# EAGLE library part P25QXH (library alvie)
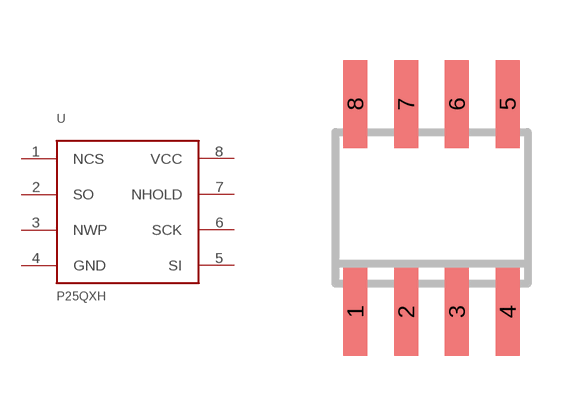
[diagram p79: symbol with the pads of SOIC8; footprint SOIC8]

Designator prefix -

## P25QXH  [SOIC8]
1  NCS  in
2  SO
3  NWP
4  GND  pwr
5  SI
6  SCK  in
7  NHOLD
8  VCC  pwr

## Footprint SOIC8 (pad centres in mm)
smd 0.6 x 2.2: 1 -1.905,-2.6; 2 -0.635,-2.6; 3 0.635,-2.6; 4 1.905,-2.6; 5 1.905,2.6; 6 0.635,2.6; 7 -0.635,2.6; 8 -1.905,2.6